# Altium footprint library 290805WBMG.PcbLib: 1 footprints
Each footprint in its own frame and in the unit in brackets; x right, y up, seen from the top. Pads: shape width x height; smd on the part's side, far side on the other; paste and mask are expansions set on the pad; w line width, h text height; cw(c..) or ccw(c..) is an arc to the next point about the centre after c.
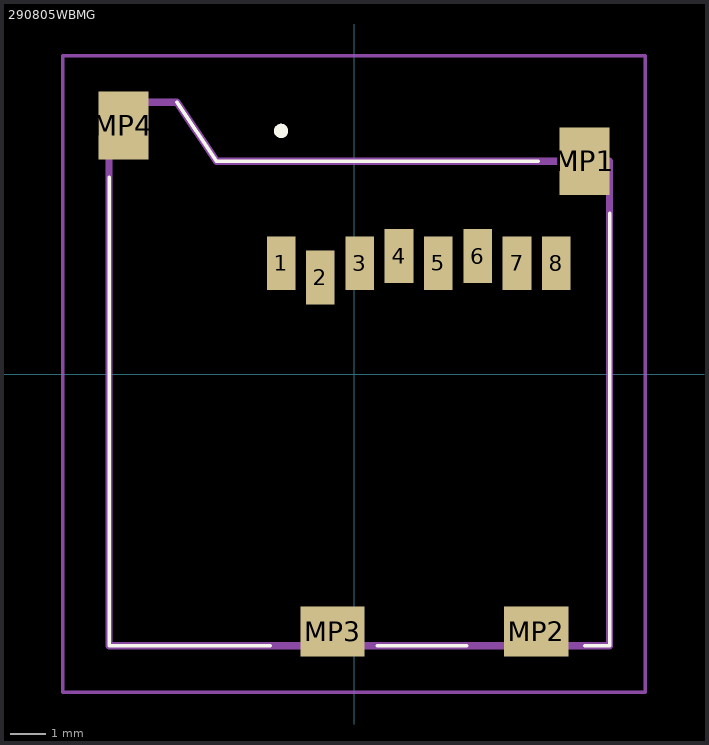
[diagram p0: the footprint, top view; thin cyan lines are the x and y axes]

## 290805WBMG [mm]
pads (12):
  rect 0.8x1.5 smd: 1(-2.04,3.1) 2(-0.94,2.7) 3(0.16,3.1) 4(1.26,3.3) 5(2.36,3.1) 6(3.46,3.3) 7(4.56,3.1) 8(5.66,3.1)
  rect 1.4x1.9 smd: MP1(6.45,5.95) MP4(-6.45,6.95)
  rect 1.8x1.4 smd: MP2(5.1,-7.2) MP3(-0.6,-7.2)
Top Overlay:
  lines w0.1: -6.85,5.5 -6.85,-7.6 -2.35,-7.6 ; -4.95,7.6 -3.85,5.95 5.15,5.95 ; 0.65,-7.6 3.15,-7.6 ; 6.45,-7.6 7.15,-7.6 7.15,4.5
  lines w0.2: -2.04,6.7 -2.04,6.7 ; -2.04,6.7 ccw(c-2.04,6.8) -2.04,6.9 ; -2.04,6.7 cw(c-2.04,6.8) -2.04,6.9 ; -2.04,6.9 -2.04,6.9
Mechanical 15:
  lines w0.2: -6.85,-7.6 -6.85,7.6 -4.95,7.6 -3.85,5.95 7.15,5.95 7.15,-7.6 -6.85,-7.6
Mechanical 20:
  lines w0.1: -8.15,-8.9 8.15,-8.9 8.15,8.9 -8.15,8.9 -8.15,-8.9